# Altium integrated library Microchip Mixed Signal.IntLib: 1399 symbols (part 30 of 39)
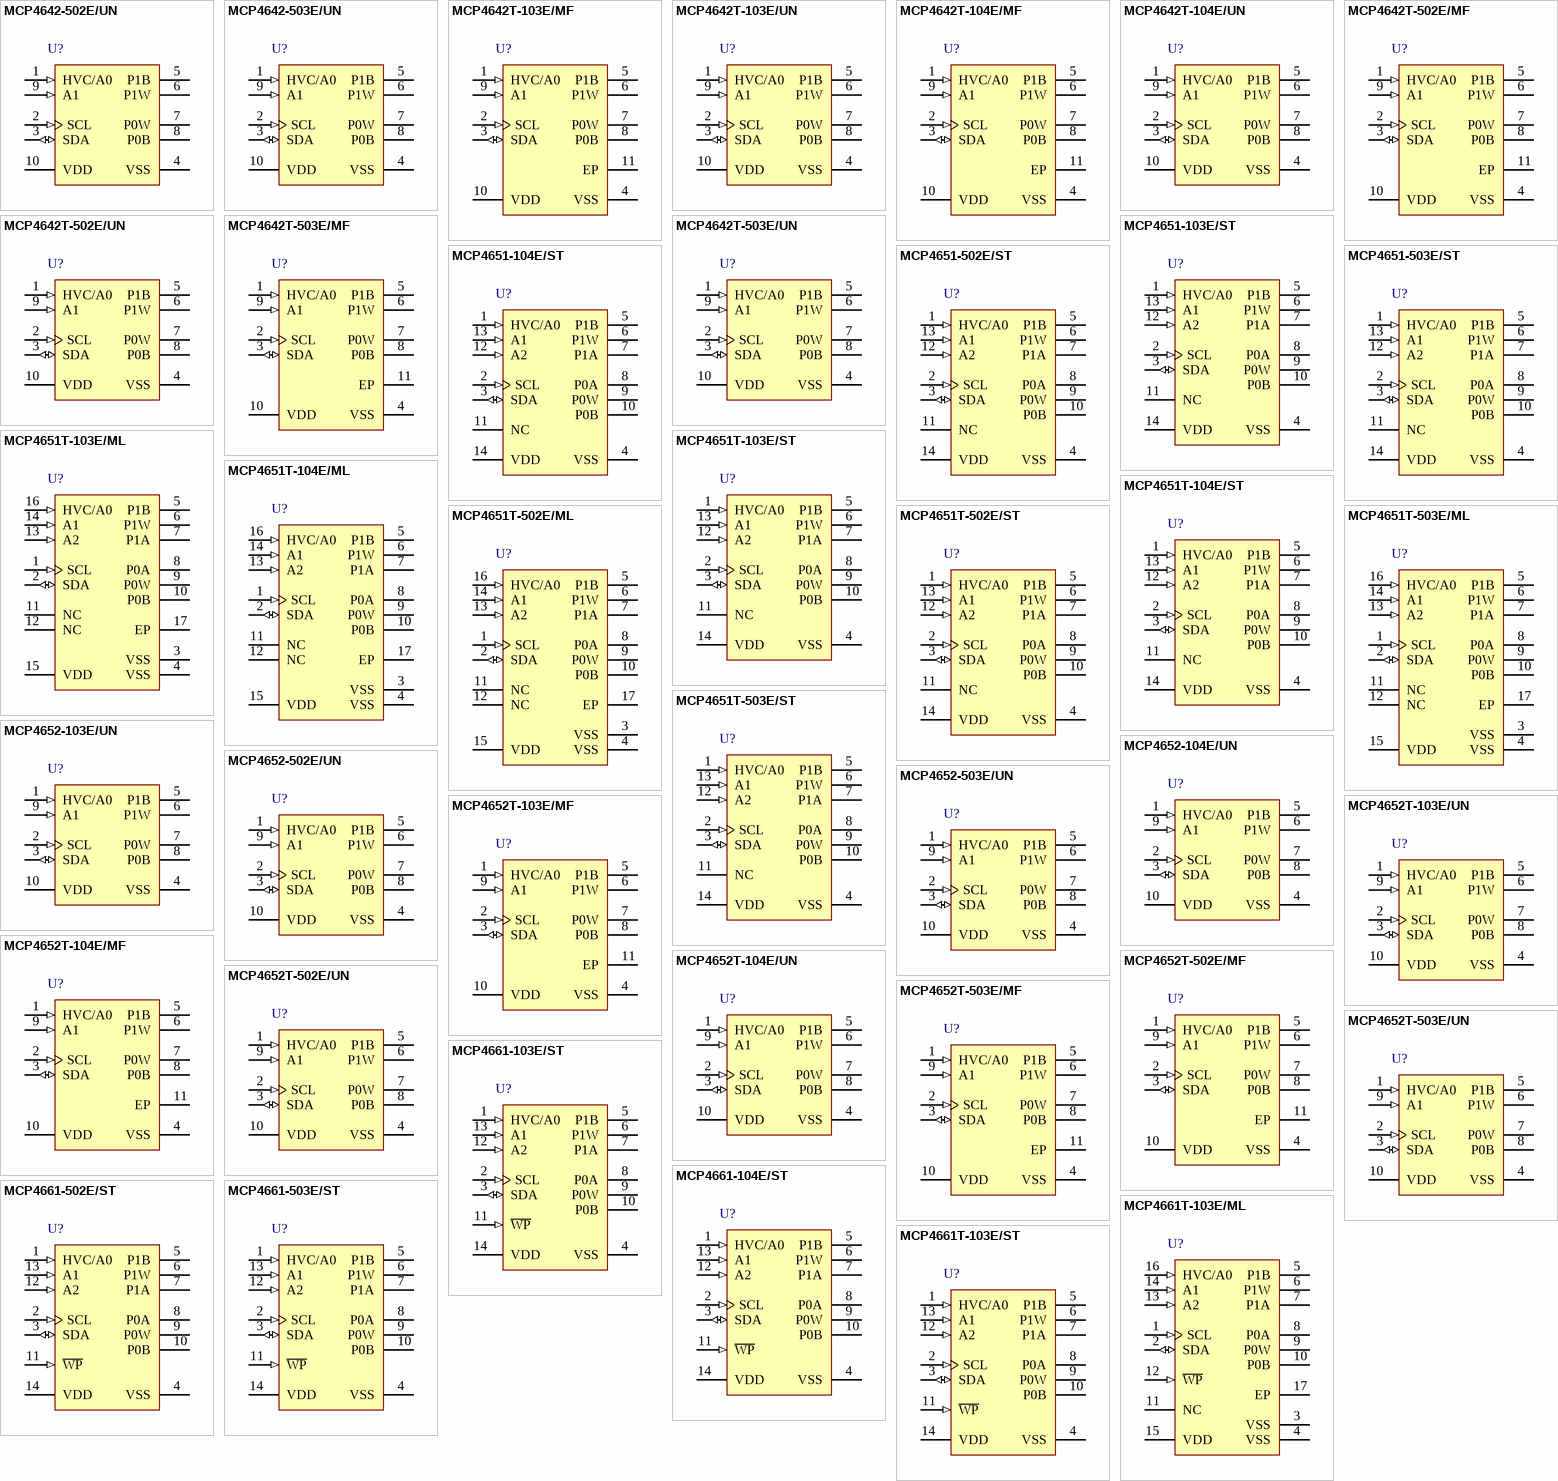
[diagram p73: symbols MCP4642-502E/UN to MCP4661T-103E/ST]

## MCP4642T-104E/UN
designator U?
7-Bit Dual I2C Digital POT with Non-Volatile Memory, 10-pin MSOP, Extended Temperature, Tape and Reel; Manufacturer: Microchip; PartNumber: MCP4642T-104E/UN; DatasheetVersion: revA, Nov-2008; PackageVersion: revBB, Aug-2009; PackageReference: MSOP-UN10; PackageDescription: 10-Lead Plastic Micro Small Outline Package (UN) [MSOP]; Supplier 1: Digi-Key; Supplier Part Number 1: MCP4642T-104E/UN-ND; Supplier 2: Mouser; Supplier Part Number 2: 579-MCP4642T-104E/UN; Mounting Technology: Surface Mount; ComponentLink1Description: Manufacturer URL; ComponentLink1URL: http://www.microchip.com/; ComponentLink2Description: Datasheet; ComponentLink2URL: http://ww1.microchip.com/downloads/en/DeviceDoc/22107a.pdf; ComponentLink3Description: Package Specification; ComponentLink3URL: http://www.microchip.com/stellent/groups/techpub_sg/documents/packagingspec/en012702.pdf
footprint MSOP-UN10_N (TSSOP, 10-Leads, Body 3x3mm, Pitch 0.5mm, IPC Medium Density)
footprint MSOP-UN10_L (TSSOP, 10-Leads, Body 3x3mm, Pitch 0.5mm, IPC High Density)
footprint MSOP-UN10_M (TSSOP, 10-Leads, Body 3x3mm, Pitch 0.5mm, IPC Low Density)
pins: 1 HVC/A0 (in), 2 SCL (in), 3 SDA (io), 4 VSS (power), 5 P1B, 6 P1W, 7 P0W, 8 P0B, 9 A1 (in), 10 VDD (power)

## MCP4642T-502E/MF
designator U?
7-Bit Dual I2C Digital POT with Non-Volatile Memory, 10-pin DFN, Extended Temperature, Tape and Reel; Manufacturer: Microchip; PartNumber: MCP4642T-502E/MF; DatasheetVersion: revA, Nov-2008; PackageVersion: revBB, Aug-2009; PackageReference: DFN-MF10; PackageDescription: 10-Lead Plastic Dual Flat, No Lead Package (MF) - 3x3x0.9mm Body [DFN]; Supplier 1: Digi-Key; Supplier Part Number 1: MCP4642T-502E/MFTR-ND; Supplier 2: Digi-Key; Supplier Part Number 2: MCP4642T-502E/MFCT-ND; Supplier 3: Digi-Key; Supplier Part Number 3: MCP4642T-502E/MFDKR-ND; Supplier 4: Mouser; Supplier Part Number 4: 579-MCP4642T-502E/MF; Mounting Technology: Surface Mount; ComponentLink1Description: Manufacturer URL; ComponentLink1URL: http://www.microchip.com/; ComponentLink2Description: Datasheet; ComponentLink2URL: http://ww1.microchip.com/downloads/en/DeviceDoc/22107a.pdf; ComponentLink3Description: Package Specification; ComponentLink3URL: http://www.microchip.com/stellent/groups/techpub_sg/documents/packagingspec/en012702.pdf
footprint DFN-MF10 (SON, 10-Leads, Body 3x3mm, Pitch 0.5mm, Microchip Recommended)
pins: 1 HVC/A0 (in), 2 SCL (in), 3 SDA (io), 4 VSS (power), 5 P1B, 6 P1W, 7 P0W, 8 P0B, 9 A1 (in), 10 VDD (power), 11 EP

## MCP4642T-502E/UN
designator U?
7-Bit Dual I2C Digital POT with Non-Volatile Memory, 10-pin MSOP, Extended Temperature, Tape and Reel; Manufacturer: Microchip; PartNumber: MCP4642T-502E/UN; DatasheetVersion: revA, Nov-2008; PackageVersion: revBB, Aug-2009; PackageReference: MSOP-UN10; PackageDescription: 10-Lead Plastic Micro Small Outline Package (UN) [MSOP]; Supplier 1: Digi-Key; Supplier Part Number 1: MCP4642T-502E/UN-ND; Supplier 2: Mouser; Supplier Part Number 2: 579-MCP4642T-502E/UN; Mounting Technology: Surface Mount; ComponentLink1Description: Manufacturer URL; ComponentLink1URL: http://www.microchip.com/; ComponentLink2Description: Datasheet; ComponentLink2URL: http://ww1.microchip.com/downloads/en/DeviceDoc/22107a.pdf; ComponentLink3Description: Package Specification; ComponentLink3URL: http://www.microchip.com/stellent/groups/techpub_sg/documents/packagingspec/en012702.pdf
footprint MSOP-UN10_N (TSSOP, 10-Leads, Body 3x3mm, Pitch 0.5mm, IPC Medium Density)
footprint MSOP-UN10_L (TSSOP, 10-Leads, Body 3x3mm, Pitch 0.5mm, IPC High Density)
footprint MSOP-UN10_M (TSSOP, 10-Leads, Body 3x3mm, Pitch 0.5mm, IPC Low Density)
pins: 1 HVC/A0 (in), 2 SCL (in), 3 SDA (io), 4 VSS (power), 5 P1B, 6 P1W, 7 P0W, 8 P0B, 9 A1 (in), 10 VDD (power)

## MCP4642T-503E/MF
designator U?
7-Bit Dual I2C Digital POT with Non-Volatile Memory, 10-pin DFN, Extended Temperature, Tape and Reel; Manufacturer: Microchip; PartNumber: MCP4642T-503E/MF; DatasheetVersion: revA, Nov-2008; PackageVersion: revBB, Aug-2009; PackageReference: DFN-MF10; PackageDescription: 10-Lead Plastic Dual Flat, No Lead Package (MF) - 3x3x0.9mm Body [DFN]; Supplier 1: Digi-Key; Supplier Part Number 1: MCP4642T-503E/MFTR-ND; Supplier 2: Digi-Key; Supplier Part Number 2: MCP4642T-503E/MFCT-ND; Supplier 3: Digi-Key; Supplier Part Number 3: MCP4642T-503E/MFDKR-ND; Supplier 4: Mouser; Supplier Part Number 4: 579-MCP4642T-503E/MF; Mounting Technology: Surface Mount; ComponentLink1Description: Manufacturer URL; ComponentLink1URL: http://www.microchip.com/; ComponentLink2Description: Datasheet; ComponentLink2URL: http://ww1.microchip.com/downloads/en/DeviceDoc/22107a.pdf; ComponentLink3Description: Package Specification; ComponentLink3URL: http://www.microchip.com/stellent/groups/techpub_sg/documents/packagingspec/en012702.pdf
footprint DFN-MF10 (SON, 10-Leads, Body 3x3mm, Pitch 0.5mm, Microchip Recommended)
pins: 1 HVC/A0 (in), 2 SCL (in), 3 SDA (io), 4 VSS (power), 5 P1B, 6 P1W, 7 P0W, 8 P0B, 9 A1 (in), 10 VDD (power), 11 EP

## MCP4642T-503E/UN
designator U?
7-Bit Dual I2C Digital POT with Non-Volatile Memory, 10-pin MSOP, Extended Temperature, Tape and Reel; Manufacturer: Microchip; PartNumber: MCP4642T-503E/UN; DatasheetVersion: revA, Nov-2008; PackageVersion: revBB, Aug-2009; PackageReference: MSOP-UN10; PackageDescription: 10-Lead Plastic Micro Small Outline Package (UN) [MSOP]; Supplier 1: Digi-Key; Supplier Part Number 1: MCP4642T-503E/UN-ND; Supplier 2: Mouser; Supplier Part Number 2: 579-MCP4642T-503E/UN; Mounting Technology: Surface Mount; ComponentLink1Description: Manufacturer URL; ComponentLink1URL: http://www.microchip.com/; ComponentLink2Description: Datasheet; ComponentLink2URL: http://ww1.microchip.com/downloads/en/DeviceDoc/22107a.pdf; ComponentLink3Description: Package Specification; ComponentLink3URL: http://www.microchip.com/stellent/groups/techpub_sg/documents/packagingspec/en012702.pdf
footprint MSOP-UN10_N (TSSOP, 10-Leads, Body 3x3mm, Pitch 0.5mm, IPC Medium Density)
footprint MSOP-UN10_L (TSSOP, 10-Leads, Body 3x3mm, Pitch 0.5mm, IPC High Density)
footprint MSOP-UN10_M (TSSOP, 10-Leads, Body 3x3mm, Pitch 0.5mm, IPC Low Density)
pins: 1 HVC/A0 (in), 2 SCL (in), 3 SDA (io), 4 VSS (power), 5 P1B, 6 P1W, 7 P0W, 8 P0B, 9 A1 (in), 10 VDD (power)

## MCP4651-103E/ST
designator U?
8-Bit Dual I2C Digital POT with Volatile Memory, 14-pin TSSOP, Extended Temperature; Manufacturer: Microchip; PartNumber: MCP4651-103E/ST; DatasheetVersion: revA, Nov-2008; PackageVersion: revBB, Aug-2009; PackageReference: TSSOP-ST14; PackageDescription: 14-Lead Plastic Thin Shrink Small Outline (ST) - 4.4mm Body [TSSOP]; Supplier 1: Digi-Key; Supplier Part Number 1: MCP4651-103E/ST-ND; Supplier 2: Farnell; Supplier Part Number 2: 1690415; Supplier 3: Newark; Supplier Part Number 3: 77M2984; Supplier 4: Mouser; Supplier Part Number 4: 579-MCP4651-103E/ST; Mounting Technology: Surface Mount; ComponentLink1Description: Manufacturer URL; ComponentLink1URL: http://www.microchip.com/; ComponentLink2Description: Datasheet; ComponentLink2URL: http://ww1.microchip.com/downloads/en/DeviceDoc/DS-22096a.pdf; ComponentLink3Description: Package Specification; ComponentLink3URL: http://www.microchip.com/stellent/groups/techpub_sg/documents/packagingspec/en012702.pdf
footprint TSSOP-ST14_N (TSOP, 14-Leads, Body 5x4.4mm, Pitch 0.65mm, IPC Medium Density)
footprint TSSOP-ST14_L (TSOP, 14-Leads, Body 5x4.4mm, Pitch 0.65mm, IPC High Density)
footprint TSSOP-ST14_M (TSOP, 14-Leads, Body 5x4.4mm, Pitch 0.65mm, IPC Low Density)
pins: 1 HVC/A0 (in), 2 SCL (in), 3 SDA (io), 4 VSS (power), 5 P1B, 6 P1W, 7 P1A, 8 P0A, 9 P0W, 10 P0B, 11 NC, 12 A2 (in), 13 A1 (in), 14 VDD (power)

## MCP4651-104E/ST
designator U?
8-Bit Dual I2C Digital POT with Volatile Memory, 14-pin TSSOP, Extended Temperature; Manufacturer: Microchip; PartNumber: MCP4651-104E/ST; DatasheetVersion: revA, Nov-2008; PackageVersion: revBB, Aug-2009; PackageReference: TSSOP-ST14; PackageDescription: 14-Lead Plastic Thin Shrink Small Outline (ST) - 4.4mm Body [TSSOP]; Supplier 1: Digi-Key; Supplier Part Number 1: MCP4651-104E/ST-ND; Supplier 2: Farnell; Supplier Part Number 2: 1840684; Supplier 3: Newark; Supplier Part Number 3: 77M2985; Supplier 4: Mouser; Supplier Part Number 4: 579-MCP4651-104E/ST; Mounting Technology: Surface Mount; ComponentLink1Description: Manufacturer URL; ComponentLink1URL: http://www.microchip.com/; ComponentLink2Description: Datasheet; ComponentLink2URL: http://ww1.microchip.com/downloads/en/DeviceDoc/DS-22096a.pdf; ComponentLink3Description: Package Specification; ComponentLink3URL: http://www.microchip.com/stellent/groups/techpub_sg/documents/packagingspec/en012702.pdf
footprint TSSOP-ST14_N (TSOP, 14-Leads, Body 5x4.4mm, Pitch 0.65mm, IPC Medium Density)
footprint TSSOP-ST14_L (TSOP, 14-Leads, Body 5x4.4mm, Pitch 0.65mm, IPC High Density)
footprint TSSOP-ST14_M (TSOP, 14-Leads, Body 5x4.4mm, Pitch 0.65mm, IPC Low Density)
pins: 1 HVC/A0 (in), 2 SCL (in), 3 SDA (io), 4 VSS (power), 5 P1B, 6 P1W, 7 P1A, 8 P0A, 9 P0W, 10 P0B, 11 NC, 12 A2 (in), 13 A1 (in), 14 VDD (power)

## MCP4651-502E/ST
designator U?
8-Bit Dual I2C Digital POT with Volatile Memory, 14-pin TSSOP, Extended Temperature; Manufacturer: Microchip; PartNumber: MCP4651-502E/ST; DatasheetVersion: revA, Nov-2008; PackageVersion: revBB, Aug-2009; PackageReference: TSSOP-ST14; PackageDescription: 14-Lead Plastic Thin Shrink Small Outline (ST) - 4.4mm Body [TSSOP]; Supplier 1: Digi-Key; Supplier Part Number 1: MCP4651-502E/ST-ND; Supplier 2: Farnell; Supplier Part Number 2: 1840749; Supplier 3: Newark; Supplier Part Number 3: 77M2986; Supplier 4: Mouser; Supplier Part Number 4: 579-MCP4651-502E/ST; Mounting Technology: Surface Mount; ComponentLink1Description: Manufacturer URL; ComponentLink1URL: http://www.microchip.com/; ComponentLink2Description: Datasheet; ComponentLink2URL: http://ww1.microchip.com/downloads/en/DeviceDoc/DS-22096a.pdf; ComponentLink3Description: Package Specification; ComponentLink3URL: http://www.microchip.com/stellent/groups/techpub_sg/documents/packagingspec/en012702.pdf
footprint TSSOP-ST14_N (TSOP, 14-Leads, Body 5x4.4mm, Pitch 0.65mm, IPC Medium Density)
footprint TSSOP-ST14_L (TSOP, 14-Leads, Body 5x4.4mm, Pitch 0.65mm, IPC High Density)
footprint TSSOP-ST14_M (TSOP, 14-Leads, Body 5x4.4mm, Pitch 0.65mm, IPC Low Density)
pins: 1 HVC/A0 (in), 2 SCL (in), 3 SDA (io), 4 VSS (power), 5 P1B, 6 P1W, 7 P1A, 8 P0A, 9 P0W, 10 P0B, 11 NC, 12 A2 (in), 13 A1 (in), 14 VDD (power)

## MCP4651-503E/ST
designator U?
8-Bit Dual I2C Digital POT with Volatile Memory, 14-pin TSSOP, Extended Temperature; Manufacturer: Microchip; PartNumber: MCP4651-503E/ST; DatasheetVersion: revA, Nov-2008; PackageVersion: revBB, Aug-2009; PackageReference: TSSOP-ST14; PackageDescription: 14-Lead Plastic Thin Shrink Small Outline (ST) - 4.4mm Body [TSSOP]; Supplier 1: Digi-Key; Supplier Part Number 1: MCP4651-503E/ST-ND; Supplier 2: Farnell; Supplier Part Number 2: 1840723; Supplier 3: Newark; Supplier Part Number 3: 77M2987; Supplier 4: Mouser; Supplier Part Number 4: 579-MCP4651-503E/ST; Mounting Technology: Surface Mount; ComponentLink1Description: Manufacturer URL; ComponentLink1URL: http://www.microchip.com/; ComponentLink2Description: Datasheet; ComponentLink2URL: http://ww1.microchip.com/downloads/en/DeviceDoc/DS-22096a.pdf; ComponentLink3Description: Package Specification; ComponentLink3URL: http://www.microchip.com/stellent/groups/techpub_sg/documents/packagingspec/en012702.pdf
footprint TSSOP-ST14_N (TSOP, 14-Leads, Body 5x4.4mm, Pitch 0.65mm, IPC Medium Density)
footprint TSSOP-ST14_L (TSOP, 14-Leads, Body 5x4.4mm, Pitch 0.65mm, IPC High Density)
footprint TSSOP-ST14_M (TSOP, 14-Leads, Body 5x4.4mm, Pitch 0.65mm, IPC Low Density)
pins: 1 HVC/A0 (in), 2 SCL (in), 3 SDA (io), 4 VSS (power), 5 P1B, 6 P1W, 7 P1A, 8 P0A, 9 P0W, 10 P0B, 11 NC, 12 A2 (in), 13 A1 (in), 14 VDD (power)

## MCP4651T-103E/ML
designator U?
8-Bit Dual I2C Digital POT with Volatile Memory, 16-pin QFN, Extended Temperature, Tape and Reel; Manufacturer: Microchip; PartNumber: MCP4651T-103E/ML; DatasheetVersion: revA, Nov-2008; PackageVersion: revBB, Aug-2009; PackageReference: QFN-ML16; PackageDescription: 16-Lead Plastic Quad Flat, No Lead Package (ML) - 4x4x0.9 mm Body [QFN]; Supplier 1: Digi-Key; Supplier Part Number 1: MCP4651T-103E/MLTR-ND; Supplier 2: Digi-Key; Supplier Part Number 2: MCP4651T-103E/MLCT-ND; Supplier 3: Digi-Key; Supplier Part Number 3: MCP4651T-103E/MLDKR-ND; Supplier 4: Newark; Supplier Part Number 4: 77M2988; Supplier 5: Mouser; Supplier Part Number 5: 579-MCP4651T-103E/ML; Mounting Technology: Surface Mount; Code_JEDEC: MO-220; Code_IPC: QFN65P400X400-16V2; ComponentLink1Description: Manufacturer URL; ComponentLink1URL: http://www.microchip.com/; ComponentLink2Description: Datasheet; ComponentLink2URL: http://ww1.microchip.com/downloads/en/DeviceDoc/DS-22096a.pdf; ComponentLink3Description: Package Specification; ComponentLink3URL: http://www.microchip.com/stellent/groups/techpub_sg/documents/packagingspec/en012702.pdf
footprint QFN-ML16_N (QFN, 16-Leads, Body 4x4mm, Pitch 0.65mm, Thermal Pad 2.8x2.8mm, IPC Medium Density)
footprint QFN-ML16_L (QFN, 16-Leads, Body 4x4mm, Pitch 0.65mm, Thermal Pad 2.8x2.8mm, IPC High Density)
footprint QFN-ML16_M (QFN, 16-Leads, Body 4x4mm, Pitch 0.65mm, Thermal Pad 2.8x2.8mm, IPC Low Density)
pins: 1 SCL (in), 2 SDA (io), 3 VSS (power), 4 VSS (power), 5 P1B, 6 P1W, 7 P1A, 8 P0A, 9 P0W, 10 P0B, 11 NC, 12 NC, 13 A2 (in), 14 A1 (in), 15 VDD (power), 16 HVC/A0 (in), 17 EP

## MCP4651T-103E/ST
designator U?
8-Bit Dual I2C Digital POT with Volatile Memory, 14-pin TSSOP, Extended Temperature, Tape and Reel; Manufacturer: Microchip; PartNumber: MCP4651T-103E/ST; DatasheetVersion: revA, Nov-2008; PackageVersion: revBB, Aug-2009; PackageReference: TSSOP-ST14; PackageDescription: 14-Lead Plastic Thin Shrink Small Outline (ST) - 4.4mm Body [TSSOP]; Supplier 1: Digi-Key; Supplier Part Number 1: MCP4651T-103E/ST-ND; Supplier 2: Newark; Supplier Part Number 2: 77M2989; Supplier 3: Mouser; Supplier Part Number 3: 579-MCP4651T-103E/ST; Mounting Technology: Surface Mount; ComponentLink1Description: Manufacturer URL; ComponentLink1URL: http://www.microchip.com/; ComponentLink2Description: Datasheet; ComponentLink2URL: http://ww1.microchip.com/downloads/en/DeviceDoc/DS-22096a.pdf; ComponentLink3Description: Package Specification; ComponentLink3URL: http://www.microchip.com/stellent/groups/techpub_sg/documents/packagingspec/en012702.pdf
footprint TSSOP-ST14_N (TSOP, 14-Leads, Body 5x4.4mm, Pitch 0.65mm, IPC Medium Density)
footprint TSSOP-ST14_L (TSOP, 14-Leads, Body 5x4.4mm, Pitch 0.65mm, IPC High Density)
footprint TSSOP-ST14_M (TSOP, 14-Leads, Body 5x4.4mm, Pitch 0.65mm, IPC Low Density)
pins: 1 HVC/A0 (in), 2 SCL (in), 3 SDA (io), 4 VSS (power), 5 P1B, 6 P1W, 7 P1A, 8 P0A, 9 P0W, 10 P0B, 11 NC, 12 A2 (in), 13 A1 (in), 14 VDD (power)

## MCP4651T-104E/ML
designator U?
8-Bit Dual I2C Digital POT with Volatile Memory, 16-pin QFN, Extended Temperature, Tape and Reel; Manufacturer: Microchip; PartNumber: MCP4651T-104E/ML; DatasheetVersion: revA, Nov-2008; PackageVersion: revBB, Aug-2009; PackageReference: QFN-ML16; PackageDescription: 16-Lead Plastic Quad Flat, No Lead Package (ML) - 4x4x0.9 mm Body [QFN]; Supplier 1: Digi-Key; Supplier Part Number 1: MCP4651T-104E/MLTR-ND; Supplier 2: Digi-Key; Supplier Part Number 2: MCP4651T-104E/MLCT-ND; Supplier 3: Digi-Key; Supplier Part Number 3: MCP4651T-104E/MLDKR-ND; Supplier 4: Mouser; Supplier Part Number 4: 579-MCP4651T-104E/ML; Mounting Technology: Surface Mount; Code_JEDEC: MO-220; Code_IPC: QFN65P400X400-16V2; ComponentLink1Description: Manufacturer URL; ComponentLink1URL: http://www.microchip.com/; ComponentLink2Description: Datasheet; ComponentLink2URL: http://ww1.microchip.com/downloads/en/DeviceDoc/DS-22096a.pdf; ComponentLink3Description: Package Specification; ComponentLink3URL: http://www.microchip.com/stellent/groups/techpub_sg/documents/packagingspec/en012702.pdf
footprint QFN-ML16_N (QFN, 16-Leads, Body 4x4mm, Pitch 0.65mm, Thermal Pad 2.8x2.8mm, IPC Medium Density)
footprint QFN-ML16_L (QFN, 16-Leads, Body 4x4mm, Pitch 0.65mm, Thermal Pad 2.8x2.8mm, IPC High Density)
footprint QFN-ML16_M (QFN, 16-Leads, Body 4x4mm, Pitch 0.65mm, Thermal Pad 2.8x2.8mm, IPC Low Density)
pins: 1 SCL (in), 2 SDA (io), 3 VSS (power), 4 VSS (power), 5 P1B, 6 P1W, 7 P1A, 8 P0A, 9 P0W, 10 P0B, 11 NC, 12 NC, 13 A2 (in), 14 A1 (in), 15 VDD (power), 16 HVC/A0 (in), 17 EP

## MCP4651T-104E/ST
designator U?
8-Bit Dual I2C Digital POT with Volatile Memory, 14-pin TSSOP, Extended Temperature, Tape and Reel; Manufacturer: Microchip; PartNumber: MCP4651T-104E/ST; DatasheetVersion: revA, Nov-2008; PackageVersion: revBB, Aug-2009; PackageReference: TSSOP-ST14; PackageDescription: 14-Lead Plastic Thin Shrink Small Outline (ST) - 4.4mm Body [TSSOP]; Supplier 1: Digi-Key; Supplier Part Number 1: MCP4651T-104E/ST-ND; Supplier 2: Mouser; Supplier Part Number 2: 579-MCP4651T-104E/ST; Mounting Technology: Surface Mount; ComponentLink1Description: Manufacturer URL; ComponentLink1URL: http://www.microchip.com/; ComponentLink2Description: Datasheet; ComponentLink2URL: http://ww1.microchip.com/downloads/en/DeviceDoc/DS-22096a.pdf; ComponentLink3Description: Package Specification; ComponentLink3URL: http://www.microchip.com/stellent/groups/techpub_sg/documents/packagingspec/en012702.pdf
footprint TSSOP-ST14_N (TSOP, 14-Leads, Body 5x4.4mm, Pitch 0.65mm, IPC Medium Density)
footprint TSSOP-ST14_L (TSOP, 14-Leads, Body 5x4.4mm, Pitch 0.65mm, IPC High Density)
footprint TSSOP-ST14_M (TSOP, 14-Leads, Body 5x4.4mm, Pitch 0.65mm, IPC Low Density)
pins: 1 HVC/A0 (in), 2 SCL (in), 3 SDA (io), 4 VSS (power), 5 P1B, 6 P1W, 7 P1A, 8 P0A, 9 P0W, 10 P0B, 11 NC, 12 A2 (in), 13 A1 (in), 14 VDD (power)

## MCP4651T-502E/ML
designator U?
8-Bit Dual I2C Digital POT with Volatile Memory, 16-pin QFN, Extended Temperature, Tape and Reel; Manufacturer: Microchip; PartNumber: MCP4651T-502E/ML; DatasheetVersion: revA, Nov-2008; PackageVersion: revBB, Aug-2009; PackageReference: QFN-ML16; PackageDescription: 16-Lead Plastic Quad Flat, No Lead Package (ML) - 4x4x0.9 mm Body [QFN]; Supplier 1: Digi-Key; Supplier Part Number 1: MCP4651T-502E/MLTR-ND; Supplier 2: Digi-Key; Supplier Part Number 2: MCP4651T-502E/MLCT-ND; Supplier 3: Digi-Key; Supplier Part Number 3: MCP4651T-502E/MLDKR-ND; Supplier 4: Newark; Supplier Part Number 4: 77M2992; Supplier 5: Mouser; Supplier Part Number 5: 579-MCP4651T-502E/ML; Mounting Technology: Surface Mount; Code_JEDEC: MO-220; Code_IPC: QFN65P400X400-16V2; ComponentLink1Description: Manufacturer URL; ComponentLink1URL: http://www.microchip.com/; ComponentLink2Description: Datasheet; ComponentLink2URL: http://ww1.microchip.com/downloads/en/DeviceDoc/DS-22096a.pdf; ComponentLink3Description: Package Specification; ComponentLink3URL: http://www.microchip.com/stellent/groups/techpub_sg/documents/packagingspec/en012702.pdf
footprint QFN-ML16_N (QFN, 16-Leads, Body 4x4mm, Pitch 0.65mm, Thermal Pad 2.8x2.8mm, IPC Medium Density)
footprint QFN-ML16_L (QFN, 16-Leads, Body 4x4mm, Pitch 0.65mm, Thermal Pad 2.8x2.8mm, IPC High Density)
footprint QFN-ML16_M (QFN, 16-Leads, Body 4x4mm, Pitch 0.65mm, Thermal Pad 2.8x2.8mm, IPC Low Density)
pins: 1 SCL (in), 2 SDA (io), 3 VSS (power), 4 VSS (power), 5 P1B, 6 P1W, 7 P1A, 8 P0A, 9 P0W, 10 P0B, 11 NC, 12 NC, 13 A2 (in), 14 A1 (in), 15 VDD (power), 16 HVC/A0 (in), 17 EP

## MCP4651T-502E/ST
designator U?
8-Bit Dual I2C Digital POT with Volatile Memory, 14-pin TSSOP, Extended Temperature, Tape and Reel; Manufacturer: Microchip; PartNumber: MCP4651T-502E/ST; DatasheetVersion: revA, Nov-2008; PackageVersion: revBB, Aug-2009; PackageReference: TSSOP-ST14; PackageDescription: 14-Lead Plastic Thin Shrink Small Outline (ST) - 4.4mm Body [TSSOP]; Supplier 1: Digi-Key; Supplier Part Number 1: MCP4651T-502E/ST-ND; Supplier 2: Mouser; Supplier Part Number 2: 579-MCP4651T-502E/ST; Mounting Technology: Surface Mount; ComponentLink1Description: Manufacturer URL; ComponentLink1URL: http://www.microchip.com/; ComponentLink2Description: Datasheet; ComponentLink2URL: http://ww1.microchip.com/downloads/en/DeviceDoc/DS-22096a.pdf; ComponentLink3Description: Package Specification; ComponentLink3URL: http://www.microchip.com/stellent/groups/techpub_sg/documents/packagingspec/en012702.pdf
footprint TSSOP-ST14_N (TSOP, 14-Leads, Body 5x4.4mm, Pitch 0.65mm, IPC Medium Density)
footprint TSSOP-ST14_L (TSOP, 14-Leads, Body 5x4.4mm, Pitch 0.65mm, IPC High Density)
footprint TSSOP-ST14_M (TSOP, 14-Leads, Body 5x4.4mm, Pitch 0.65mm, IPC Low Density)
pins: 1 HVC/A0 (in), 2 SCL (in), 3 SDA (io), 4 VSS (power), 5 P1B, 6 P1W, 7 P1A, 8 P0A, 9 P0W, 10 P0B, 11 NC, 12 A2 (in), 13 A1 (in), 14 VDD (power)

## MCP4651T-503E/ML
designator U?
8-Bit Dual I2C Digital POT with Volatile Memory, 16-pin QFN, Extended Temperature, Tape and Reel; Manufacturer: Microchip; PartNumber: MCP4651T-503E/ML; DatasheetVersion: revA, Nov-2008; PackageVersion: revBB, Aug-2009; PackageReference: QFN-ML16; PackageDescription: 16-Lead Plastic Quad Flat, No Lead Package (ML) - 4x4x0.9 mm Body [QFN]; Supplier 1: Digi-Key; Supplier Part Number 1: MCP4651T-503E/MLTR-ND; Supplier 2: Digi-Key; Supplier Part Number 2: MCP4651T-503E/MLCT-ND; Supplier 3: Digi-Key; Supplier Part Number 3: MCP4651T-503E/MLDKR-ND; Supplier 4: Mouser; Supplier Part Number 4: 579-MCP4651T-503E/ML; Mounting Technology: Surface Mount; Code_JEDEC: MO-220; Code_IPC: QFN65P400X400-16V2; ComponentLink1Description: Manufacturer URL; ComponentLink1URL: http://www.microchip.com/; ComponentLink2Description: Datasheet; ComponentLink2URL: http://ww1.microchip.com/downloads/en/DeviceDoc/DS-22096a.pdf; ComponentLink3Description: Package Specification; ComponentLink3URL: http://www.microchip.com/stellent/groups/techpub_sg/documents/packagingspec/en012702.pdf
footprint QFN-ML16_N (QFN, 16-Leads, Body 4x4mm, Pitch 0.65mm, Thermal Pad 2.8x2.8mm, IPC Medium Density)
footprint QFN-ML16_L (QFN, 16-Leads, Body 4x4mm, Pitch 0.65mm, Thermal Pad 2.8x2.8mm, IPC High Density)
footprint QFN-ML16_M (QFN, 16-Leads, Body 4x4mm, Pitch 0.65mm, Thermal Pad 2.8x2.8mm, IPC Low Density)
pins: 1 SCL (in), 2 SDA (io), 3 VSS (power), 4 VSS (power), 5 P1B, 6 P1W, 7 P1A, 8 P0A, 9 P0W, 10 P0B, 11 NC, 12 NC, 13 A2 (in), 14 A1 (in), 15 VDD (power), 16 HVC/A0 (in), 17 EP

## MCP4651T-503E/ST
designator U?
8-Bit Dual I2C Digital POT with Volatile Memory, 14-pin TSSOP, Extended Temperature, Tape and Reel; Manufacturer: Microchip; PartNumber: MCP4651T-503E/ST; DatasheetVersion: revA, Nov-2008; PackageVersion: revBB, Aug-2009; PackageReference: TSSOP-ST14; PackageDescription: 14-Lead Plastic Thin Shrink Small Outline (ST) - 4.4mm Body [TSSOP]; Supplier 1: Digi-Key; Supplier Part Number 1: MCP4651T-503E/ST-ND; Supplier 2: Mouser; Supplier Part Number 2: 579-MCP4651T-503E/ST; Mounting Technology: Surface Mount; ComponentLink1Description: Manufacturer URL; ComponentLink1URL: http://www.microchip.com/; ComponentLink2Description: Datasheet; ComponentLink2URL: http://ww1.microchip.com/downloads/en/DeviceDoc/DS-22096a.pdf; ComponentLink3Description: Package Specification; ComponentLink3URL: http://www.microchip.com/stellent/groups/techpub_sg/documents/packagingspec/en012702.pdf
footprint TSSOP-ST14_N (TSOP, 14-Leads, Body 5x4.4mm, Pitch 0.65mm, IPC Medium Density)
footprint TSSOP-ST14_L (TSOP, 14-Leads, Body 5x4.4mm, Pitch 0.65mm, IPC High Density)
footprint TSSOP-ST14_M (TSOP, 14-Leads, Body 5x4.4mm, Pitch 0.65mm, IPC Low Density)
pins: 1 HVC/A0 (in), 2 SCL (in), 3 SDA (io), 4 VSS (power), 5 P1B, 6 P1W, 7 P1A, 8 P0A, 9 P0W, 10 P0B, 11 NC, 12 A2 (in), 13 A1 (in), 14 VDD (power)

## MCP4652-103E/UN
designator U?
8-Bit Dual I2C Digital POT with Volatile Memory, 10-pin MSOP, Extended Temperature; Manufacturer: Microchip; PartNumber: MCP4652-103E/UN; DatasheetVersion: revA, Nov-2008; PackageVersion: revBB, Aug-2009; PackageReference: MSOP-UN10; PackageDescription: 10-Lead Plastic Micro Small Outline Package (UN) [MSOP]; Supplier 1: Digi-Key; Supplier Part Number 1: MCP4652-103E/UN-ND; Supplier 2: Newark; Supplier Part Number 2: 77M2996; Supplier 3: Mouser; Supplier Part Number 3: 579-MCP4652-103E/UN; Mounting Technology: Surface Mount; ComponentLink1Description: Manufacturer URL; ComponentLink1URL: http://www.microchip.com/; ComponentLink2Description: Datasheet; ComponentLink2URL: http://ww1.microchip.com/downloads/en/DeviceDoc/DS-22096a.pdf; ComponentLink3Description: Package Specification; ComponentLink3URL: http://www.microchip.com/stellent/groups/techpub_sg/documents/packagingspec/en012702.pdf
footprint MSOP-UN10_N (TSSOP, 10-Leads, Body 3x3mm, Pitch 0.5mm, IPC Medium Density)
footprint MSOP-UN10_L (TSSOP, 10-Leads, Body 3x3mm, Pitch 0.5mm, IPC High Density)
footprint MSOP-UN10_M (TSSOP, 10-Leads, Body 3x3mm, Pitch 0.5mm, IPC Low Density)
pins: 1 HVC/A0 (in), 2 SCL (in), 3 SDA (io), 4 VSS (power), 5 P1B, 6 P1W, 7 P0W, 8 P0B, 9 A1 (in), 10 VDD (power)

## MCP4652-104E/UN
designator U?
8-Bit Dual I2C Digital POT with Volatile Memory, 10-pin MSOP, Extended Temperature; Manufacturer: Microchip; PartNumber: MCP4652-104E/UN; DatasheetVersion: revA, Nov-2008; PackageVersion: revBB, Aug-2009; PackageReference: MSOP-UN10; PackageDescription: 10-Lead Plastic Micro Small Outline Package (UN) [MSOP]; Supplier 1: Digi-Key; Supplier Part Number 1: MCP4652-104E/UN-ND; Supplier 2: Farnell; Supplier Part Number 2: 1840679; Supplier 3: Newark; Supplier Part Number 3: 77M2997; Supplier 4: Mouser; Supplier Part Number 4: 579-MCP4652-104E/UN; Mounting Technology: Surface Mount; ComponentLink1Description: Manufacturer URL; ComponentLink1URL: http://www.microchip.com/; ComponentLink2Description: Datasheet; ComponentLink2URL: http://ww1.microchip.com/downloads/en/DeviceDoc/DS-22096a.pdf; ComponentLink3Description: Package Specification; ComponentLink3URL: http://www.microchip.com/stellent/groups/techpub_sg/documents/packagingspec/en012702.pdf
footprint MSOP-UN10_N (TSSOP, 10-Leads, Body 3x3mm, Pitch 0.5mm, IPC Medium Density)
footprint MSOP-UN10_L (TSSOP, 10-Leads, Body 3x3mm, Pitch 0.5mm, IPC High Density)
footprint MSOP-UN10_M (TSSOP, 10-Leads, Body 3x3mm, Pitch 0.5mm, IPC Low Density)
pins: 1 HVC/A0 (in), 2 SCL (in), 3 SDA (io), 4 VSS (power), 5 P1B, 6 P1W, 7 P0W, 8 P0B, 9 A1 (in), 10 VDD (power)

## MCP4652-502E/UN
designator U?
8-Bit Dual I2C Digital POT with Volatile Memory, 10-pin MSOP, Extended Temperature; Manufacturer: Microchip; PartNumber: MCP4652-502E/UN; DatasheetVersion: revA, Nov-2008; PackageVersion: revBB, Aug-2009; PackageReference: MSOP-UN10; PackageDescription: 10-Lead Plastic Micro Small Outline Package (UN) [MSOP]; Supplier 1: Digi-Key; Supplier Part Number 1: MCP4652-502E/UN-ND; Supplier 2: Farnell; Supplier Part Number 2: 1840747; Supplier 3: Newark; Supplier Part Number 3: 77M2998; Supplier 4: Mouser; Supplier Part Number 4: 579-MCP4652-502E/UN; Mounting Technology: Surface Mount; ComponentLink1Description: Manufacturer URL; ComponentLink1URL: http://www.microchip.com/; ComponentLink2Description: Datasheet; ComponentLink2URL: http://ww1.microchip.com/downloads/en/DeviceDoc/DS-22096a.pdf; ComponentLink3Description: Package Specification; ComponentLink3URL: http://www.microchip.com/stellent/groups/techpub_sg/documents/packagingspec/en012702.pdf
footprint MSOP-UN10_N (TSSOP, 10-Leads, Body 3x3mm, Pitch 0.5mm, IPC Medium Density)
footprint MSOP-UN10_L (TSSOP, 10-Leads, Body 3x3mm, Pitch 0.5mm, IPC High Density)
footprint MSOP-UN10_M (TSSOP, 10-Leads, Body 3x3mm, Pitch 0.5mm, IPC Low Density)
pins: 1 HVC/A0 (in), 2 SCL (in), 3 SDA (io), 4 VSS (power), 5 P1B, 6 P1W, 7 P0W, 8 P0B, 9 A1 (in), 10 VDD (power)

## MCP4652-503E/UN
designator U?
8-Bit Dual I2C Digital POT with Volatile Memory, 10-pin MSOP, Extended Temperature; Manufacturer: Microchip; PartNumber: MCP4652-503E/UN; DatasheetVersion: revA, Nov-2008; PackageVersion: revBB, Aug-2009; PackageReference: MSOP-UN10; PackageDescription: 10-Lead Plastic Micro Small Outline Package (UN) [MSOP]; Supplier 1: Digi-Key; Supplier Part Number 1: MCP4652-503E/UN-ND; Supplier 2: Farnell; Supplier Part Number 2: 1840718; Supplier 3: Newark; Supplier Part Number 3: 77M2999; Supplier 4: Mouser; Supplier Part Number 4: 579-MCP4652-503E/UN; Mounting Technology: Surface Mount; ComponentLink1Description: Manufacturer URL; ComponentLink1URL: http://www.microchip.com/; ComponentLink2Description: Datasheet; ComponentLink2URL: http://ww1.microchip.com/downloads/en/DeviceDoc/DS-22096a.pdf; ComponentLink3Description: Package Specification; ComponentLink3URL: http://www.microchip.com/stellent/groups/techpub_sg/documents/packagingspec/en012702.pdf
footprint MSOP-UN10_N (TSSOP, 10-Leads, Body 3x3mm, Pitch 0.5mm, IPC Medium Density)
footprint MSOP-UN10_L (TSSOP, 10-Leads, Body 3x3mm, Pitch 0.5mm, IPC High Density)
footprint MSOP-UN10_M (TSSOP, 10-Leads, Body 3x3mm, Pitch 0.5mm, IPC Low Density)
pins: 1 HVC/A0 (in), 2 SCL (in), 3 SDA (io), 4 VSS (power), 5 P1B, 6 P1W, 7 P0W, 8 P0B, 9 A1 (in), 10 VDD (power)

## MCP4652T-103E/MF
designator U?
8-Bit Dual I2C Digital POT with Volatile Memory, 10-pin DFN, Extended Temperature, Tape and Reel; Manufacturer: Microchip; PartNumber: MCP4652T-103E/MF; DatasheetVersion: revA, Nov-2008; PackageVersion: revBB, Aug-2009; PackageReference: DFN-MF10; PackageDescription: 10-Lead Plastic Dual Flat, No Lead Package (MF) - 3x3x0.9mm Body [DFN]; Supplier 1: Digi-Key; Supplier Part Number 1: MCP4652T-103E/MFTR-ND; Supplier 2: Digi-Key; Supplier Part Number 2: MCP4652T-103E/MFCT-ND; Supplier 3: Digi-Key; Supplier Part Number 3: MCP4652T-103E/MFDKR-ND; Supplier 4: Mouser; Supplier Part Number 4: 579-MCP4652T-103E/MF; Mounting Technology: Surface Mount; ComponentLink1Description: Manufacturer URL; ComponentLink1URL: http://www.microchip.com/; ComponentLink2Description: Datasheet; ComponentLink2URL: http://ww1.microchip.com/downloads/en/DeviceDoc/DS-22096a.pdf; ComponentLink3Description: Package Specification; ComponentLink3URL: http://www.microchip.com/stellent/groups/techpub_sg/documents/packagingspec/en012702.pdf
footprint DFN-MF10 (SON, 10-Leads, Body 3x3mm, Pitch 0.5mm, Microchip Recommended)
pins: 1 HVC/A0 (in), 2 SCL (in), 3 SDA (io), 4 VSS (power), 5 P1B, 6 P1W, 7 P0W, 8 P0B, 9 A1 (in), 10 VDD (power), 11 EP

## MCP4652T-103E/UN
designator U?
8-Bit Dual I2C Digital POT with Volatile Memory, 10-pin MSOP, Extended Temperature, Tape and Reel; Manufacturer: Microchip; PartNumber: MCP4652T-103E/UN; DatasheetVersion: revA, Nov-2008; PackageVersion: revBB, Aug-2009; PackageReference: MSOP-UN10; PackageDescription: 10-Lead Plastic Micro Small Outline Package (UN) [MSOP]; Supplier 1: Digi-Key; Supplier Part Number 1: MCP4652T-103E/UN-ND; Supplier 2: Mouser; Supplier Part Number 2: 579-MCP4652T-103E/UN; Mounting Technology: Surface Mount; ComponentLink1Description: Manufacturer URL; ComponentLink1URL: http://www.microchip.com/; ComponentLink2Description: Datasheet; ComponentLink2URL: http://ww1.microchip.com/downloads/en/DeviceDoc/DS-22096a.pdf; ComponentLink3Description: Package Specification; ComponentLink3URL: http://www.microchip.com/stellent/groups/techpub_sg/documents/packagingspec/en012702.pdf
footprint MSOP-UN10_N (TSSOP, 10-Leads, Body 3x3mm, Pitch 0.5mm, IPC Medium Density)
footprint MSOP-UN10_L (TSSOP, 10-Leads, Body 3x3mm, Pitch 0.5mm, IPC High Density)
footprint MSOP-UN10_M (TSSOP, 10-Leads, Body 3x3mm, Pitch 0.5mm, IPC Low Density)
pins: 1 HVC/A0 (in), 2 SCL (in), 3 SDA (io), 4 VSS (power), 5 P1B, 6 P1W, 7 P0W, 8 P0B, 9 A1 (in), 10 VDD (power)

## MCP4652T-104E/MF
designator U?
8-Bit Dual I2C Digital POT with Volatile Memory, 10-pin DFN, Extended Temperature, Tape and Reel; Manufacturer: Microchip; PartNumber: MCP4652T-104E/MF; DatasheetVersion: revA, Nov-2008; PackageVersion: revBB, Aug-2009; PackageReference: DFN-MF10; PackageDescription: 10-Lead Plastic Dual Flat, No Lead Package (MF) - 3x3x0.9mm Body [DFN]; Supplier 1: Digi-Key; Supplier Part Number 1: MCP4652T-104E/MFTR-ND; Supplier 2: Digi-Key; Supplier Part Number 2: MCP4652T-104E/MFCT-ND; Supplier 3: Digi-Key; Supplier Part Number 3: MCP4652T-104E/MFDKR-ND; Supplier 4: Mouser; Supplier Part Number 4: 579-MCP4652T-104E/MF; Mounting Technology: Surface Mount; ComponentLink1Description: Manufacturer URL; ComponentLink1URL: http://www.microchip.com/; ComponentLink2Description: Datasheet; ComponentLink2URL: http://ww1.microchip.com/downloads/en/DeviceDoc/DS-22096a.pdf; ComponentLink3Description: Package Specification; ComponentLink3URL: http://www.microchip.com/stellent/groups/techpub_sg/documents/packagingspec/en012702.pdf
footprint DFN-MF10 (SON, 10-Leads, Body 3x3mm, Pitch 0.5mm, Microchip Recommended)
pins: 1 HVC/A0 (in), 2 SCL (in), 3 SDA (io), 4 VSS (power), 5 P1B, 6 P1W, 7 P0W, 8 P0B, 9 A1 (in), 10 VDD (power), 11 EP

## MCP4652T-104E/UN
designator U?
8-Bit Dual I2C Digital POT with Volatile Memory, 10-pin MSOP, Extended Temperature, Tape and Reel; Manufacturer: Microchip; PartNumber: MCP4652T-104E/UN; DatasheetVersion: revA, Nov-2008; PackageVersion: revBB, Aug-2009; PackageReference: MSOP-UN10; PackageDescription: 10-Lead Plastic Micro Small Outline Package (UN) [MSOP]; Supplier 1: Digi-Key; Supplier Part Number 1: MCP4652T-104E/UN-ND; Supplier 2: Mouser; Supplier Part Number 2: 579-MCP4652T-104E/UN; Mounting Technology: Surface Mount; ComponentLink1Description: Manufacturer URL; ComponentLink1URL: http://www.microchip.com/; ComponentLink2Description: Datasheet; ComponentLink2URL: http://ww1.microchip.com/downloads/en/DeviceDoc/DS-22096a.pdf; ComponentLink3Description: Package Specification; ComponentLink3URL: http://www.microchip.com/stellent/groups/techpub_sg/documents/packagingspec/en012702.pdf
footprint MSOP-UN10_N (TSSOP, 10-Leads, Body 3x3mm, Pitch 0.5mm, IPC Medium Density)
footprint MSOP-UN10_L (TSSOP, 10-Leads, Body 3x3mm, Pitch 0.5mm, IPC High Density)
footprint MSOP-UN10_M (TSSOP, 10-Leads, Body 3x3mm, Pitch 0.5mm, IPC Low Density)
pins: 1 HVC/A0 (in), 2 SCL (in), 3 SDA (io), 4 VSS (power), 5 P1B, 6 P1W, 7 P0W, 8 P0B, 9 A1 (in), 10 VDD (power)

## MCP4652T-502E/MF
designator U?
8-Bit Dual I2C Digital POT with Volatile Memory, 10-pin DFN, Extended Temperature, Tape and Reel; Manufacturer: Microchip; PartNumber: MCP4652T-502E/MF; DatasheetVersion: revA, Nov-2008; PackageVersion: revBB, Aug-2009; PackageReference: DFN-MF10; PackageDescription: 10-Lead Plastic Dual Flat, No Lead Package (MF) - 3x3x0.9mm Body [DFN]; Supplier 1: Digi-Key; Supplier Part Number 1: MCP4652T-502E/MFTR-ND; Supplier 2: Digi-Key; Supplier Part Number 2: MCP4652T-502E/MFCT-ND; Supplier 3: Digi-Key; Supplier Part Number 3: MCP4652T-502E/MFDKR-ND; Supplier 4: Mouser; Supplier Part Number 4: 579-MCP4652T-502E/MF; Mounting Technology: Surface Mount; ComponentLink1Description: Manufacturer URL; ComponentLink1URL: http://www.microchip.com/; ComponentLink2Description: Datasheet; ComponentLink2URL: http://ww1.microchip.com/downloads/en/DeviceDoc/DS-22096a.pdf; ComponentLink3Description: Package Specification; ComponentLink3URL: http://www.microchip.com/stellent/groups/techpub_sg/documents/packagingspec/en012702.pdf
footprint DFN-MF10 (SON, 10-Leads, Body 3x3mm, Pitch 0.5mm, Microchip Recommended)
pins: 1 HVC/A0 (in), 2 SCL (in), 3 SDA (io), 4 VSS (power), 5 P1B, 6 P1W, 7 P0W, 8 P0B, 9 A1 (in), 10 VDD (power), 11 EP

## MCP4652T-502E/UN
designator U?
8-Bit Dual I2C Digital POT with Volatile Memory, 10-pin MSOP, Extended Temperature, Tape and Reel; Manufacturer: Microchip; PartNumber: MCP4652T-502E/UN; DatasheetVersion: revA, Nov-2008; PackageVersion: revBB, Aug-2009; PackageReference: MSOP-UN10; PackageDescription: 10-Lead Plastic Micro Small Outline Package (UN) [MSOP]; Supplier 1: Digi-Key; Supplier Part Number 1: MCP4652T-502E/UN-ND; Supplier 2: Mouser; Supplier Part Number 2: 579-MCP4652T-502E/UN; Mounting Technology: Surface Mount; ComponentLink1Description: Manufacturer URL; ComponentLink1URL: http://www.microchip.com/; ComponentLink2Description: Datasheet; ComponentLink2URL: http://ww1.microchip.com/downloads/en/DeviceDoc/DS-22096a.pdf; ComponentLink3Description: Package Specification; ComponentLink3URL: http://www.microchip.com/stellent/groups/techpub_sg/documents/packagingspec/en012702.pdf
footprint MSOP-UN10_N (TSSOP, 10-Leads, Body 3x3mm, Pitch 0.5mm, IPC Medium Density)
footprint MSOP-UN10_L (TSSOP, 10-Leads, Body 3x3mm, Pitch 0.5mm, IPC High Density)
footprint MSOP-UN10_M (TSSOP, 10-Leads, Body 3x3mm, Pitch 0.5mm, IPC Low Density)
pins: 1 HVC/A0 (in), 2 SCL (in), 3 SDA (io), 4 VSS (power), 5 P1B, 6 P1W, 7 P0W, 8 P0B, 9 A1 (in), 10 VDD (power)

## MCP4652T-503E/MF
designator U?
8-Bit Dual I2C Digital POT with Volatile Memory, 10-pin DFN, Extended Temperature, Tape and Reel; Manufacturer: Microchip; PartNumber: MCP4652T-503E/MF; DatasheetVersion: revA, Nov-2008; PackageVersion: revBB, Aug-2009; PackageReference: DFN-MF10; PackageDescription: 10-Lead Plastic Dual Flat, No Lead Package (MF) - 3x3x0.9mm Body [DFN]; Supplier 1: Digi-Key; Supplier Part Number 1: MCP4652T-503E/MFTR-ND; Supplier 2: Digi-Key; Supplier Part Number 2: MCP4652T-503E/MFCT-ND; Supplier 3: Digi-Key; Supplier Part Number 3: MCP4652T-503E/MFDKR-ND; Supplier 4: Newark; Supplier Part Number 4: 77M3006; Supplier 5: Mouser; Supplier Part Number 5: 579-MCP4652T-503E/MF; Mounting Technology: Surface Mount; ComponentLink1Description: Manufacturer URL; ComponentLink1URL: http://www.microchip.com/; ComponentLink2Description: Datasheet; ComponentLink2URL: http://ww1.microchip.com/downloads/en/DeviceDoc/DS-22096a.pdf; ComponentLink3Description: Package Specification; ComponentLink3URL: http://www.microchip.com/stellent/groups/techpub_sg/documents/packagingspec/en012702.pdf
footprint DFN-MF10 (SON, 10-Leads, Body 3x3mm, Pitch 0.5mm, Microchip Recommended)
pins: 1 HVC/A0 (in), 2 SCL (in), 3 SDA (io), 4 VSS (power), 5 P1B, 6 P1W, 7 P0W, 8 P0B, 9 A1 (in), 10 VDD (power), 11 EP

## MCP4652T-503E/UN
designator U?
8-Bit Dual I2C Digital POT with Volatile Memory, 10-pin MSOP, Extended Temperature, Tape and Reel; Manufacturer: Microchip; PartNumber: MCP4652T-503E/UN; DatasheetVersion: revA, Nov-2008; PackageVersion: revBB, Aug-2009; PackageReference: MSOP-UN10; PackageDescription: 10-Lead Plastic Micro Small Outline Package (UN) [MSOP]; Supplier 1: Digi-Key; Supplier Part Number 1: MCP4652T-503E/UN-ND; Supplier 2: Mouser; Supplier Part Number 2: 579-MCP4652T-503E/UN; Mounting Technology: Surface Mount; ComponentLink1Description: Manufacturer URL; ComponentLink1URL: http://www.microchip.com/; ComponentLink2Description: Datasheet; ComponentLink2URL: http://ww1.microchip.com/downloads/en/DeviceDoc/DS-22096a.pdf; ComponentLink3Description: Package Specification; ComponentLink3URL: http://www.microchip.com/stellent/groups/techpub_sg/documents/packagingspec/en012702.pdf
footprint MSOP-UN10_N (TSSOP, 10-Leads, Body 3x3mm, Pitch 0.5mm, IPC Medium Density)
footprint MSOP-UN10_L (TSSOP, 10-Leads, Body 3x3mm, Pitch 0.5mm, IPC High Density)
footprint MSOP-UN10_M (TSSOP, 10-Leads, Body 3x3mm, Pitch 0.5mm, IPC Low Density)
pins: 1 HVC/A0 (in), 2 SCL (in), 3 SDA (io), 4 VSS (power), 5 P1B, 6 P1W, 7 P0W, 8 P0B, 9 A1 (in), 10 VDD (power)

## MCP4661-103E/ST
designator U?
8-Bit Dual I2C Digital POT with Non-Volatile Memory, 14-pin TSSOP, Extended Temperature; Manufacturer: Microchip; PartNumber: MCP4661-103E/ST; DatasheetVersion: revA, Nov-2008; PackageVersion: revBB, Aug-2009; PackageReference: TSSOP-ST14; PackageDescription: 14-Lead Plastic Thin Shrink Small Outline (ST) - 4.4mm Body [TSSOP]; Supplier 1: Digi-Key; Supplier Part Number 1: MCP4661-103E/ST-ND; Supplier 2: Farnell; Supplier Part Number 2: 1690416; Supplier 3: Newark; Supplier Part Number 3: 77M3008; Supplier 4: Mouser; Supplier Part Number 4: 579-MCP4661-103E/ST; Mounting Technology: Surface Mount; ComponentLink1Description: Manufacturer URL; ComponentLink1URL: http://www.microchip.com/; ComponentLink2Description: Datasheet; ComponentLink2URL: http://ww1.microchip.com/downloads/en/DeviceDoc/22107a.pdf; ComponentLink3Description: Package Specification; ComponentLink3URL: http://www.microchip.com/stellent/groups/techpub_sg/documents/packagingspec/en012702.pdf
footprint TSSOP-ST14_N (TSOP, 14-Leads, Body 5x4.4mm, Pitch 0.65mm, IPC Medium Density)
footprint TSSOP-ST14_L (TSOP, 14-Leads, Body 5x4.4mm, Pitch 0.65mm, IPC High Density)
footprint TSSOP-ST14_M (TSOP, 14-Leads, Body 5x4.4mm, Pitch 0.65mm, IPC Low Density)
pins: 1 HVC/A0 (in), 2 SCL (in), 3 SDA (io), 4 VSS (power), 5 P1B, 6 P1W, 7 P1A, 8 P0A, 9 P0W, 10 P0B, 11 ~{WP} (in), 12 A2 (in), 13 A1 (in), 14 VDD (power)

## MCP4661-104E/ST
designator U?
8-Bit Dual I2C Digital POT with Non-Volatile Memory, 14-pin TSSOP, Extended Temperature; Manufacturer: Microchip; PartNumber: MCP4661-104E/ST; DatasheetVersion: revA, Nov-2008; PackageVersion: revBB, Aug-2009; PackageReference: TSSOP-ST14; PackageDescription: 14-Lead Plastic Thin Shrink Small Outline (ST) - 4.4mm Body [TSSOP]; Supplier 1: Digi-Key; Supplier Part Number 1: MCP4661-104E/ST-ND; Supplier 2: Farnell; Supplier Part Number 2: 1840685; Supplier 3: Newark; Supplier Part Number 3: 77M3009; Supplier 4: Mouser; Supplier Part Number 4: 579-MCP4661-104E/ST; Mounting Technology: Surface Mount; ComponentLink1Description: Manufacturer URL; ComponentLink1URL: http://www.microchip.com/; ComponentLink2Description: Datasheet; ComponentLink2URL: http://ww1.microchip.com/downloads/en/DeviceDoc/22107a.pdf; ComponentLink3Description: Package Specification; ComponentLink3URL: http://www.microchip.com/stellent/groups/techpub_sg/documents/packagingspec/en012702.pdf
footprint TSSOP-ST14_N (TSOP, 14-Leads, Body 5x4.4mm, Pitch 0.65mm, IPC Medium Density)
footprint TSSOP-ST14_L (TSOP, 14-Leads, Body 5x4.4mm, Pitch 0.65mm, IPC High Density)
footprint TSSOP-ST14_M (TSOP, 14-Leads, Body 5x4.4mm, Pitch 0.65mm, IPC Low Density)
pins: 1 HVC/A0 (in), 2 SCL (in), 3 SDA (io), 4 VSS (power), 5 P1B, 6 P1W, 7 P1A, 8 P0A, 9 P0W, 10 P0B, 11 ~{WP} (in), 12 A2 (in), 13 A1 (in), 14 VDD (power)

## MCP4661-502E/ST
designator U?
8-Bit Dual I2C Digital POT with Non-Volatile Memory, 14-pin TSSOP, Extended Temperature; Manufacturer: Microchip; PartNumber: MCP4661-502E/ST; DatasheetVersion: revA, Nov-2008; PackageVersion: revBB, Aug-2009; PackageReference: TSSOP-ST14; PackageDescription: 14-Lead Plastic Thin Shrink Small Outline (ST) - 4.4mm Body [TSSOP]; Supplier 1: Digi-Key; Supplier Part Number 1: MCP4661-502E/ST-ND; Supplier 2: Farnell; Supplier Part Number 2: 1840750; Supplier 3: Newark; Supplier Part Number 3: 77M3010; Supplier 4: Mouser; Supplier Part Number 4: 579-MCP4661-502E/ST; Mounting Technology: Surface Mount; ComponentLink1Description: Manufacturer URL; ComponentLink1URL: http://www.microchip.com/; ComponentLink2Description: Datasheet; ComponentLink2URL: http://ww1.microchip.com/downloads/en/DeviceDoc/22107a.pdf; ComponentLink3Description: Package Specification; ComponentLink3URL: http://www.microchip.com/stellent/groups/techpub_sg/documents/packagingspec/en012702.pdf
footprint TSSOP-ST14_N (TSOP, 14-Leads, Body 5x4.4mm, Pitch 0.65mm, IPC Medium Density)
footprint TSSOP-ST14_L (TSOP, 14-Leads, Body 5x4.4mm, Pitch 0.65mm, IPC High Density)
footprint TSSOP-ST14_M (TSOP, 14-Leads, Body 5x4.4mm, Pitch 0.65mm, IPC Low Density)
pins: 1 HVC/A0 (in), 2 SCL (in), 3 SDA (io), 4 VSS (power), 5 P1B, 6 P1W, 7 P1A, 8 P0A, 9 P0W, 10 P0B, 11 ~{WP} (in), 12 A2 (in), 13 A1 (in), 14 VDD (power)

## MCP4661-503E/ST
designator U?
8-Bit Dual I2C Digital POT with Non-Volatile Memory, 14-pin TSSOP, Extended Temperature; Manufacturer: Microchip; PartNumber: MCP4661-503E/ST; DatasheetVersion: revA, Nov-2008; PackageVersion: revBB, Aug-2009; PackageReference: TSSOP-ST14; PackageDescription: 14-Lead Plastic Thin Shrink Small Outline (ST) - 4.4mm Body [TSSOP]; Supplier 1: Digi-Key; Supplier Part Number 1: MCP4661-503E/ST-ND; Supplier 2: Farnell; Supplier Part Number 2: 1840724; Supplier 3: Newark; Supplier Part Number 3: 77M3011; Supplier 4: Mouser; Supplier Part Number 4: 579-MCP4661-503E/ST; Mounting Technology: Surface Mount; ComponentLink1Description: Manufacturer URL; ComponentLink1URL: http://www.microchip.com/; ComponentLink2Description: Datasheet; ComponentLink2URL: http://ww1.microchip.com/downloads/en/DeviceDoc/22107a.pdf; ComponentLink3Description: Package Specification; ComponentLink3URL: http://www.microchip.com/stellent/groups/techpub_sg/documents/packagingspec/en012702.pdf
footprint TSSOP-ST14_N (TSOP, 14-Leads, Body 5x4.4mm, Pitch 0.65mm, IPC Medium Density)
footprint TSSOP-ST14_L (TSOP, 14-Leads, Body 5x4.4mm, Pitch 0.65mm, IPC High Density)
footprint TSSOP-ST14_M (TSOP, 14-Leads, Body 5x4.4mm, Pitch 0.65mm, IPC Low Density)
pins: 1 HVC/A0 (in), 2 SCL (in), 3 SDA (io), 4 VSS (power), 5 P1B, 6 P1W, 7 P1A, 8 P0A, 9 P0W, 10 P0B, 11 ~{WP} (in), 12 A2 (in), 13 A1 (in), 14 VDD (power)

## MCP4661T-103E/ML
designator U?
8-Bit Dual I2C Digital POT with Non-Volatile Memory, 16-pin QFN, Extended Temperature, Tape and Reel; Manufacturer: Microchip; PartNumber: MCP4661T-103E/ML; DatasheetVersion: revA, Nov-2008; PackageVersion: revBB, Aug-2009; PackageReference: QFN-ML16; PackageDescription: 16-Lead Plastic Quad Flat, No Lead Package (ML) - 4x4x0.9 mm Body [QFN]; Supplier 1: Digi-Key; Supplier Part Number 1: MCP4661T-103E/MLTR-ND; Supplier 2: Digi-Key; Supplier Part Number 2: MCP4661T-103E/MLCT-ND; Supplier 3: Digi-Key; Supplier Part Number 3: MCP4661T-103E/MLDKR-ND; Supplier 4: Newark; Supplier Part Number 4: 77M3012; Supplier 5: Mouser; Supplier Part Number 5: 579-MCP4661T-103E/ML; Mounting Technology: Surface Mount; Code_JEDEC: MO-220; Code_IPC: QFN65P400X400-16V2; ComponentLink1Description: Manufacturer URL; ComponentLink1URL: http://www.microchip.com/; ComponentLink2Description: Datasheet; ComponentLink2URL: http://ww1.microchip.com/downloads/en/DeviceDoc/22107a.pdf; ComponentLink3Description: Package Specification; ComponentLink3URL: http://www.microchip.com/stellent/groups/techpub_sg/documents/packagingspec/en012702.pdf
footprint QFN-ML16_N (QFN, 16-Leads, Body 4x4mm, Pitch 0.65mm, Thermal Pad 2.8x2.8mm, IPC Medium Density)
footprint QFN-ML16_L (QFN, 16-Leads, Body 4x4mm, Pitch 0.65mm, Thermal Pad 2.8x2.8mm, IPC High Density)
footprint QFN-ML16_M (QFN, 16-Leads, Body 4x4mm, Pitch 0.65mm, Thermal Pad 2.8x2.8mm, IPC Low Density)
pins: 1 SCL (in), 2 SDA (io), 3 VSS (power), 4 VSS (power), 5 P1B, 6 P1W, 7 P1A, 8 P0A, 9 P0W, 10 P0B, 11 NC, 12 ~{WP} (in), 13 A2 (in), 14 A1 (in), 15 VDD (power), 16 HVC/A0 (in), 17 EP

## MCP4661T-103E/ST
designator U?
8-Bit Dual I2C Digital POT with Non-Volatile Memory, 14-pin TSSOP, Extended Temperature, Tape and Reel; Manufacturer: Microchip; PartNumber: MCP4661T-103E/ST; DatasheetVersion: revA, Nov-2008; PackageVersion: revBB, Aug-2009; PackageReference: TSSOP-ST14; PackageDescription: 14-Lead Plastic Thin Shrink Small Outline (ST) - 4.4mm Body [TSSOP]; Supplier 1: Digi-Key; Supplier Part Number 1: MCP4661T-103E/ST-ND; Supplier 2: Newark; Supplier Part Number 2: 77M3013; Supplier 3: Mouser; Supplier Part Number 3: 579-MCP4661T-103E/ST; Mounting Technology: Surface Mount; ComponentLink1Description: Manufacturer URL; ComponentLink1URL: http://www.microchip.com/; ComponentLink2Description: Datasheet; ComponentLink2URL: http://ww1.microchip.com/downloads/en/DeviceDoc/22107a.pdf; ComponentLink3Description: Package Specification; ComponentLink3URL: http://www.microchip.com/stellent/groups/techpub_sg/documents/packagingspec/en012702.pdf
footprint TSSOP-ST14_N (TSOP, 14-Leads, Body 5x4.4mm, Pitch 0.65mm, IPC Medium Density)
footprint TSSOP-ST14_L (TSOP, 14-Leads, Body 5x4.4mm, Pitch 0.65mm, IPC High Density)
footprint TSSOP-ST14_M (TSOP, 14-Leads, Body 5x4.4mm, Pitch 0.65mm, IPC Low Density)
pins: 1 HVC/A0 (in), 2 SCL (in), 3 SDA (io), 4 VSS (power), 5 P1B, 6 P1W, 7 P1A, 8 P0A, 9 P0W, 10 P0B, 11 ~{WP} (in), 12 A2 (in), 13 A1 (in), 14 VDD (power)

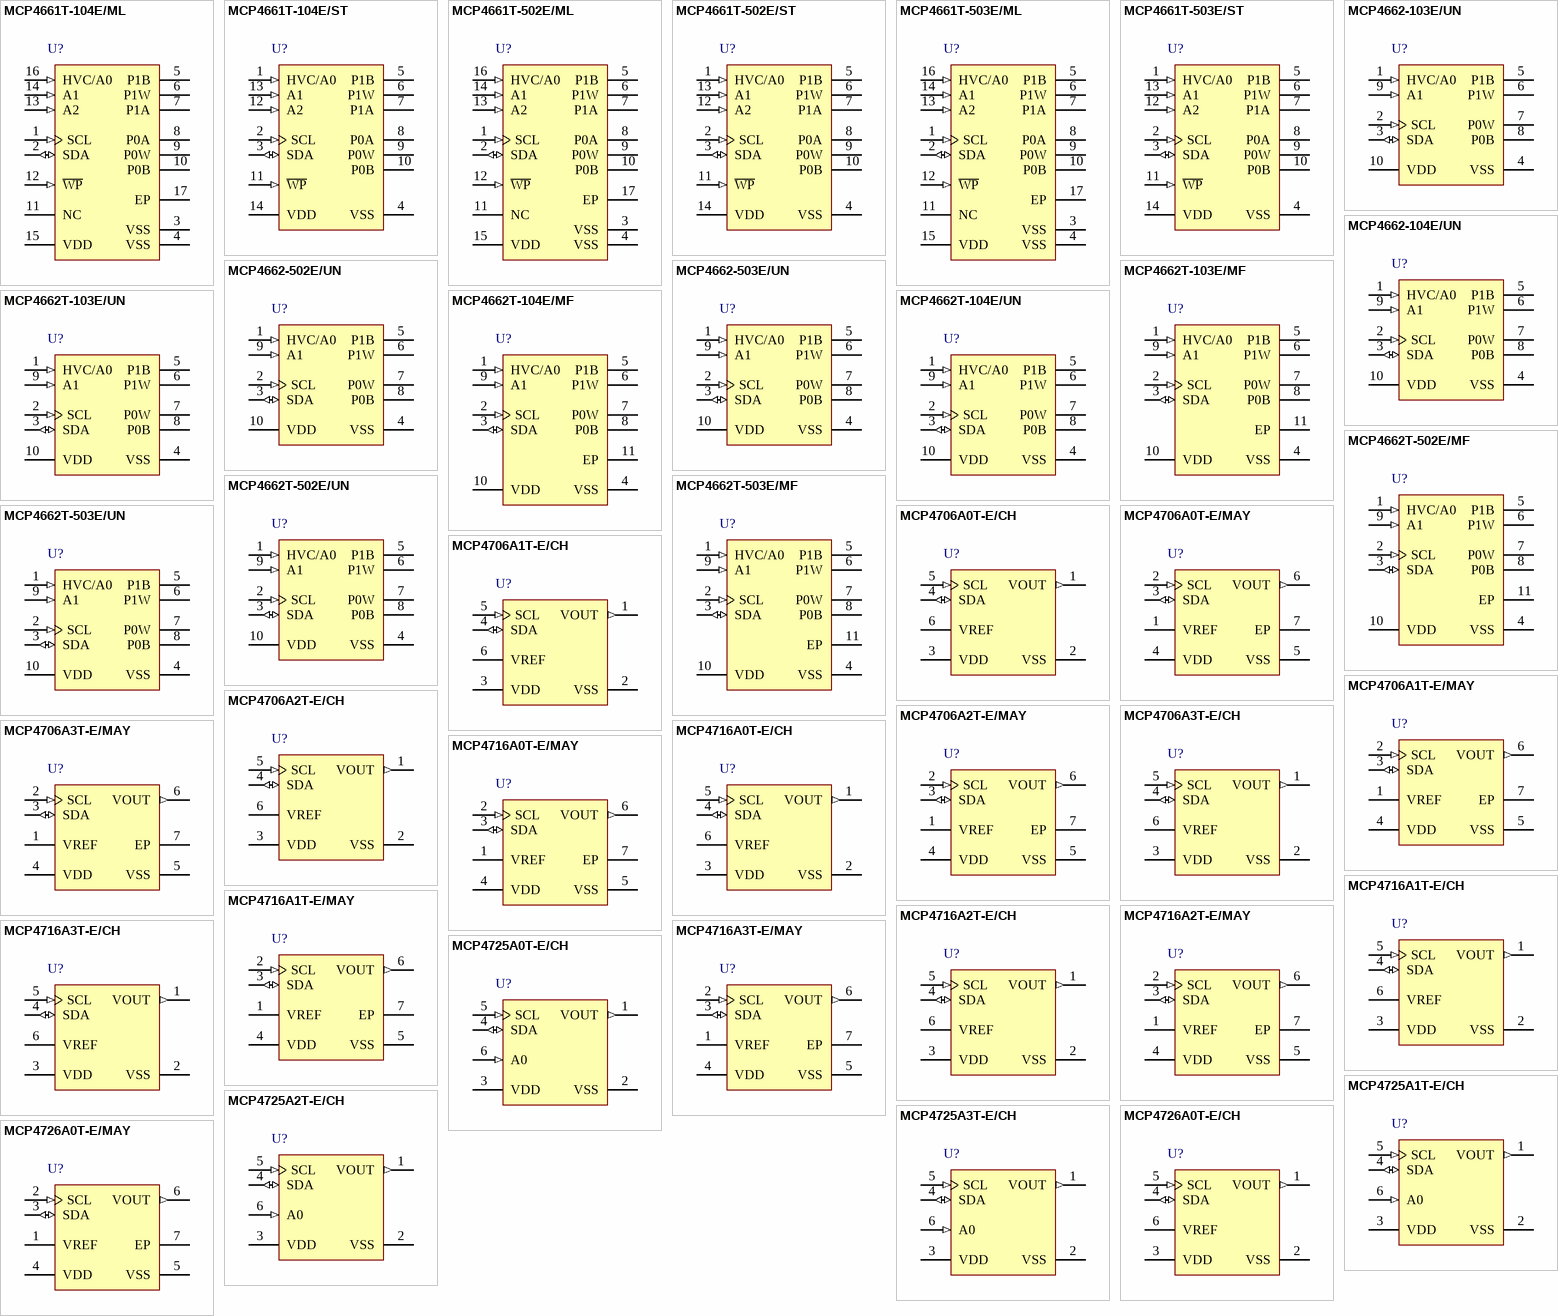
[diagram p32: symbols MCP4661T-104E/ML to MCP4726A0T-E/MAY]

## MCP4661T-104E/ML
designator U?
8-Bit Dual I2C Digital POT with Non-Volatile Memory, 16-pin QFN, Extended Temperature, Tape and Reel; Manufacturer: Microchip; PartNumber: MCP4661T-104E/ML; DatasheetVersion: revA, Nov-2008; PackageVersion: revBB, Aug-2009; PackageReference: QFN-ML16; PackageDescription: 16-Lead Plastic Quad Flat, No Lead Package (ML) - 4x4x0.9 mm Body [QFN]; Supplier 1: Digi-Key; Supplier Part Number 1: MCP4661T-104E/MLTR-ND; Supplier 2: Digi-Key; Supplier Part Number 2: MCP4661T-104E/MLCT-ND; Supplier 3: Digi-Key; Supplier Part Number 3: MCP4661T-104E/MLDKR-ND; Supplier 4: Newark; Supplier Part Number 4: 77M3014; Supplier 5: Mouser; Supplier Part Number 5: 579-MCP4661T-104E/ML; Mounting Technology: Surface Mount; Code_JEDEC: MO-220; Code_IPC: QFN65P400X400-16V2; ComponentLink1Description: Manufacturer URL; ComponentLink1URL: http://www.microchip.com/; ComponentLink2Description: Datasheet; ComponentLink2URL: http://ww1.microchip.com/downloads/en/DeviceDoc/22107a.pdf; ComponentLink3Description: Package Specification; ComponentLink3URL: http://www.microchip.com/stellent/groups/techpub_sg/documents/packagingspec/en012702.pdf
footprint QFN-ML16_N (QFN, 16-Leads, Body 4x4mm, Pitch 0.65mm, Thermal Pad 2.8x2.8mm, IPC Medium Density)
footprint QFN-ML16_L (QFN, 16-Leads, Body 4x4mm, Pitch 0.65mm, Thermal Pad 2.8x2.8mm, IPC High Density)
footprint QFN-ML16_M (QFN, 16-Leads, Body 4x4mm, Pitch 0.65mm, Thermal Pad 2.8x2.8mm, IPC Low Density)
pins: 1 SCL (in), 2 SDA (io), 3 VSS (power), 4 VSS (power), 5 P1B, 6 P1W, 7 P1A, 8 P0A, 9 P0W, 10 P0B, 11 NC, 12 ~{WP} (in), 13 A2 (in), 14 A1 (in), 15 VDD (power), 16 HVC/A0 (in), 17 EP